# Altium integrated library SMD Elektrilits.IntLib: 1 symbol
Pins are listed as number, name and electrical type; pins without a type are passive.

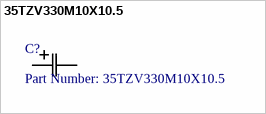
[diagram p0: symbol 35TZV330M10X10.5]

## 35TZV330M10X10.5
designator C?, comment Part Number: 35TZV330M10X10.5
No Description Available; Vendor: Rubycon Netherlands; Built_By: EMA_Cory; Type: DEV; Manufacturer_Part_Number: 35TZV330M10X10.5; Copyright: Copyright (C) 2018 Accelerated Designs. All rights reserved; RefDes: RefDes; Value: Value
footprint CAP_J-V_10X10P5
footprint CAP_J-V_10X10P00
pins: 1 (power), 2 (power)